# Altium schematic symbol library TEN 40-xx1xN.SchLib: 1 symbol
Pins are listed as number, name and electrical type; pins without a type are passive.

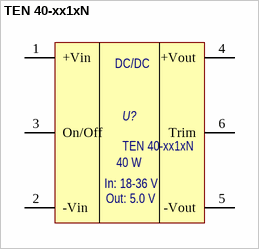
[diagram p0: symbol TEN 40-xx1xN]

## TEN 40-xx1xN
designator U?
DC-DC Converter; Потребление, Вт: 40; Назначение: DC-DC Converter; Наименование: TEN 40-xx1xN; ComponentLink1Description: DataSheet; ComponentLink1URL: https://static.chipdip.ru/lib/348/DOC011348486.pdf
footprint TEN 40-xx1xN
pins: 1 +Vin, 2 -Vin, 3 On/Off, 4 +Vout, 5 -Vout, 6 Trim
text: DC/DC; 40 W; In: 18-36 V; Out: 5.0 V